# Altium footprint library DIP-RL  0607.PCBlib: 52 footprints (part 2 of 4)
Each footprint in its own frame and in the unit in brackets; x right, y up, seen from the top. Pads: shape width x height; smd on the part's side, far side on the other; paste and mask are expansions set on the pad; w line width, h text height; cw(c..) or ccw(c..) is an arc to the next point about the centre after c.
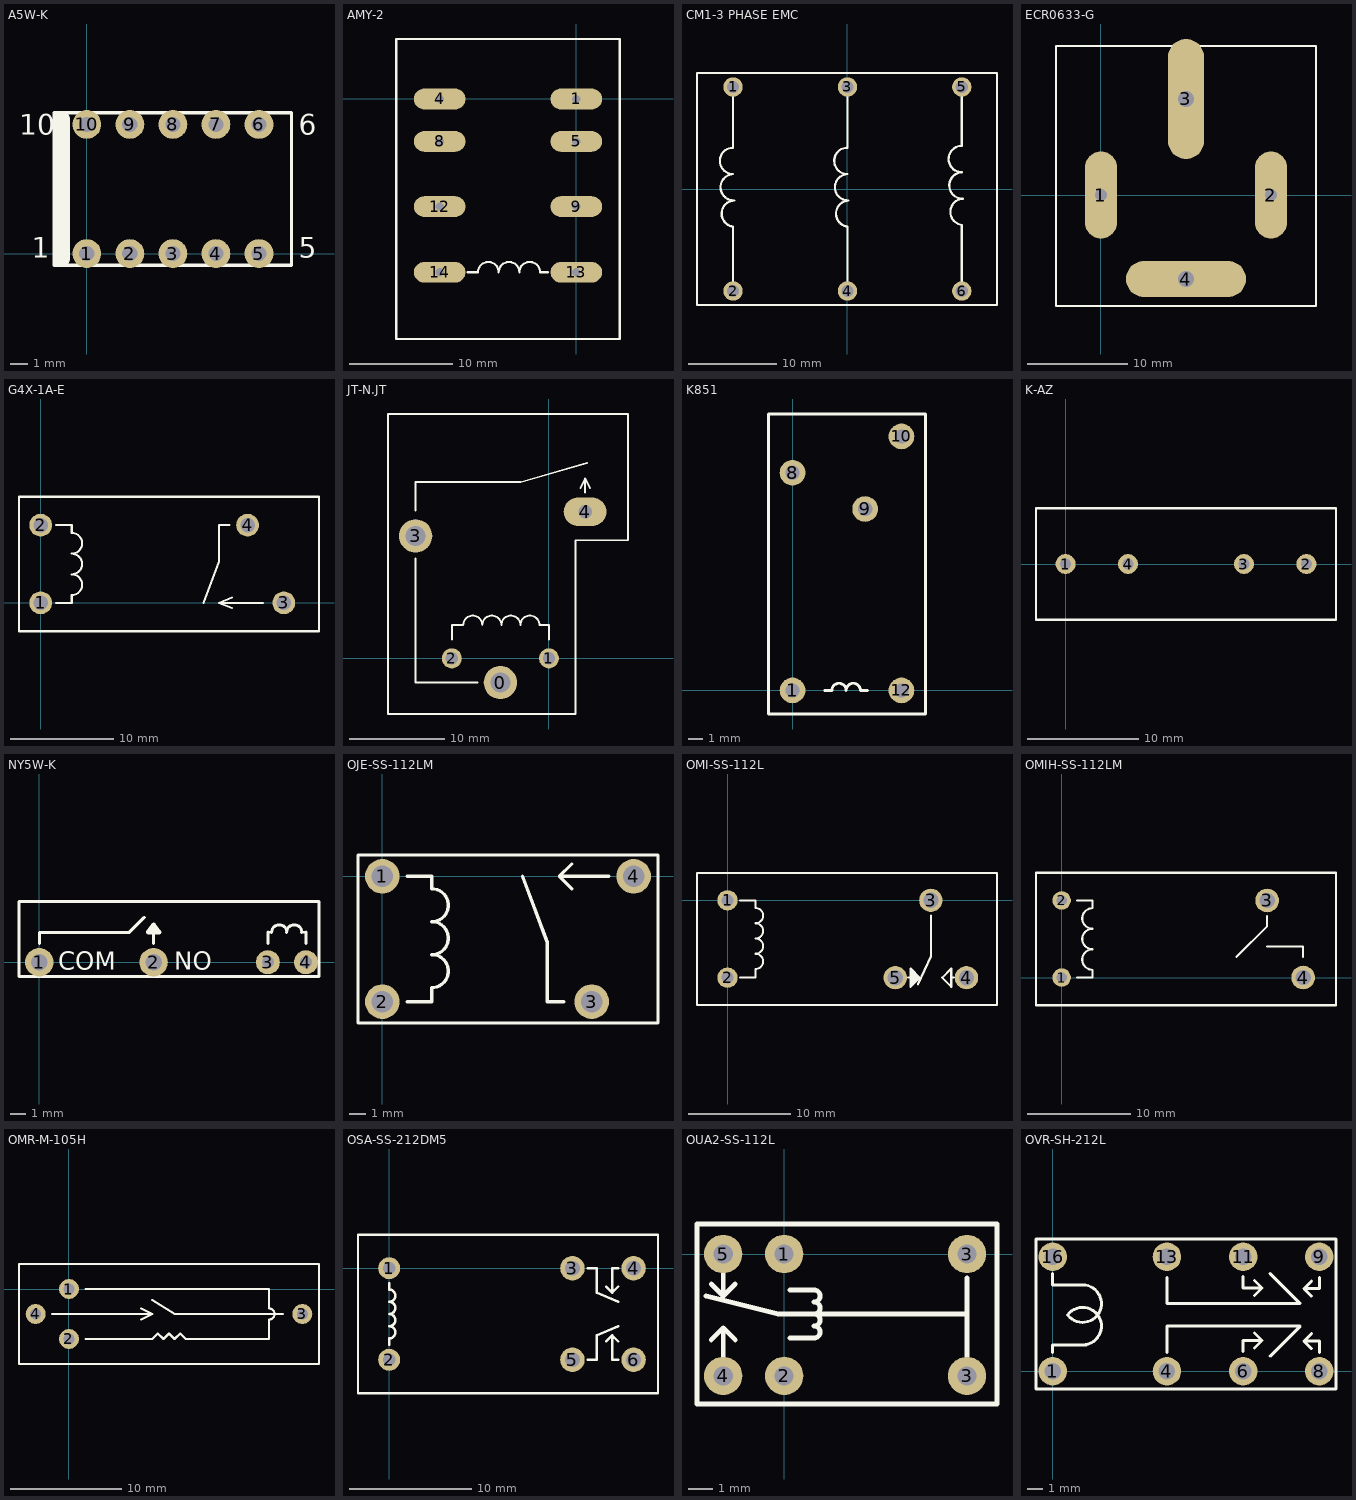
[diagram p1: the footprints below, top view; thin cyan lines are the x and y axes]

## A5W-K [mm] "0720420207"
height 5
pads (10):
  round 1.7 hole 0.9: 1(0,0) 2(2.54,0) 3(5.08,0) 4(7.62,0) 5(10.16,0) 6(10.16,7.62) 7(7.62,7.62) 8(5.08,7.62) 9(2.54,7.62) 10(0,7.62)
Top Overlay:
  lines w0.2: -1.92,-0.7 -1.92,8.3 12.08,8.3 12.08,-0.7 -1.92,-0.7
  lines w1: -1.5,-0.3 -1.5,7.9
  text "10" at -4,7 h1.2
  text "6" at 12.5,7 h1.2
  text "5" at 12.5,-0.25 h1.2
  text "1" at -3.25,-0.25 h1.2
Bottom Overlay:
  lines w0.6: 1.27,-0.75 1.27,0.75 ; 1.27,6.87 1.27,8.37 ; 3.81,-0.75 3.81,0.75 ; 3.81,6.87 3.81,8.37 ; 6.35,-0.75 6.35,0.75 ; 6.35,6.87 6.35,8.37 ; 8.89,-0.75 8.89,0.75 ; 8.89,6.87 8.89,8.37

## AMY-2 [mm]
pads (8):
  oval 5x2 hole 0.8: 1(0,0) 4(-13.2,0) 5(0,-4.1) 8(-13.2,-4.1) 9(0,-10.4) 12(-13.2,-10.4) 13(0,-16.75) 14(-13.2,-16.75)
Top Overlay:
  lines w0.2: -10.5,-16.75 -9.5,-16.75 cw(c-8.5,-16.75) -7.5,-16.75 cw(c-6.5,-16.75) -5.5,-16.75 cw(c-4.5,-16.75) -3.5,-16.75 -2.75,-16.75 ; -17.4,-23.2 -17.4,5.8 4.2,5.8 4.2,-23.2 -17.4,-23.2
Top Solder:
  lines w1.1: -14.05,-16.75 -13.2,-16.75 -12.35,-16.75 ; -14.05,-10.4 -13.2,-10.4 -12.35,-10.4 ; -14.05,-4.1 -13.2,-4.1 -12.35,-4.1 ; -14.05,0 -13.2,0 -12.35,0 ; -0.85,-16.75 0,-16.75 0.85,-16.75 ; -0.85,-10.4 0,-10.4 0.85,-10.4 ; -0.85,-4.1 0,-4.1 0.85,-4.1 ; -0.85,0 0,0 0.85,0
Drill Drawing:
  lines w0.2: -14.05,-17.15 cw(c-14.05,-16.75) -14.05,-16.35 -12.35,-16.35 cw(c-12.35,-16.75) -12.35,-17.15 -14.05,-17.15 ; -14.05,-10.8 cw(c-14.05,-10.4) -14.05,-10 -12.35,-10 cw(c-12.35,-10.4) -12.35,-10.8 -14.05,-10.8 ; -14.05,-4.5 cw(c-14.05,-4.1) -14.05,-3.7 -12.35,-3.7 cw(c-12.35,-4.1) -12.35,-4.5 -14.05,-4.5 ; -14.05,-0.4 cw(c-14.05,0) -14.05,0.4 -12.35,0.4 cw(c-12.35,0) -12.35,-0.4 -14.05,-0.4 ; -0.85,-17.15 cw(c-0.85,-16.75) -0.85,-16.35 0.85,-16.35 cw(c0.85,-16.75) 0.85,-17.15 -0.85,-17.15 ; -0.85,-10.8 cw(c-0.85,-10.4) -0.85,-10 0.85,-10 cw(c0.85,-10.4) 0.85,-10.8 -0.85,-10.8 ; -0.85,-4.5 cw(c-0.85,-4.1) -0.85,-3.7 0.85,-3.7 cw(c0.85,-4.1) 0.85,-4.5 -0.85,-4.5 ; -0.85,-0.4 cw(c-0.85,0) -0.85,0.4 0.85,0.4 cw(c0.85,0) 0.85,-0.4 -0.85,-0.4
  text "(0.8*2.5)*8" at -11,-20.5 h1.2

## CM1-3 PHASE EMC [mm]
pads (6):
  round 2.2 hole 1.4: 1(-13,11.606) 2(-13,-11.594) 3(0,11.606) 4(0,-11.594) 5(13,11.606) 6(13,-11.594)
Top Overlay:
  lines w0.2: -17.1,-13.194 -17.1,13.206 17,13.206 17,-13.194 -17.1,-13.194
  lines w0.254: -13.076,4.704 ccw(c-13,3.206) -13,1.706 ccw(c-12.924,0.208) -12.924,-1.292 ; -13,-11.594 -13,-4.294 ; -13,4.706 -13,11.606 ; -12.998,-4.281 cw(c-12.8,-2.794) -12.876,-1.296 ; -0.076,4.704 ccw(c0,3.206) 0,1.706 ccw(c0.076,0.208) 0.076,-1.292 ; 0,-11.594 0,-4.294 ; 0,4.706 0,11.606 ; 0.002,-4.281 cw(c0.2,-2.794) 0.124,-1.296 ; 12.924,4.904 ccw(c13,3.406) 13,1.906 ccw(c13.076,0.408) 13.076,-1.092 ; 13,-11.594 13,-4.094 ; 13,4.906 13,11.606 ; 13.002,-4.081 cw(c13.2,-2.594) 13.124,-1.096

## ECR0633-G [mm]
pads (4):
  oval 3.2x8.7 hole 1.2: 1(0,0) 2(17,0)
  oval 3.6x12 hole 1.6: 3(8.5,9.6)
  oval 12x3.6 hole 1.6: 4(8.5,-8.4)
Top Overlay:
  lines w0.2: -4.5,-11.1 21.5,-11.1 21.5,14.9 -4.5,14.9 -4.5,-11.1
Top Solder:
  lines w1.5: 0,-2.75 0,0 0,2.75 ; 17,-2.75 17,0 17,2.75
  lines w1.9: 4.3,-8.4 8.5,-8.4 12.7,-8.4 ; 8.5,5.4 8.5,9.6 8.5,13.8
Drill Drawing:
  lines w0.2: -0.599,-2.78 ccw(c0,-2.75) 0.598,-2.793 0.599,2.78 ccw(c0,2.75) -0.598,2.793 -0.599,-2.78 ; 4.3,-9.2 cw(c4.3,-8.4) 4.3,-7.6 12.7,-7.6 cw(c12.7,-8.4) 12.7,-9.2 4.3,-9.2 ; 7.7,5.4 ccw(c8.5,5.4) 9.3,5.4 9.3,13.8 ccw(c8.5,13.8) 7.7,13.8 7.7,5.4 ; 16.401,-2.78 ccw(c17,-2.75) 17.598,-2.793 17.599,2.78 ccw(c17,2.75) 16.402,2.793 16.401,-2.78
  text "1.2X6.7" at 14.25,-6 h1.2
  text "1.2X6.7" at -2.75,-6 h1.2
  text "1.6X10" at 6,1.75 h1.2
  text "1.6X10" at 5.75,-6 h1.2

## G4X-1A-E [mm] "0720010305"
height 25.5
pads (4):
  round 2.2 hole 1.4: 1(0,0) 2(0,7.5) 3(23.5,0) 4(20,7.5)
Top Overlay:
  lines w0.2: 1.5,0 3,0 3,0.75 ccw(c3,1.75) 3,2.75 ccw(c3,3.75) 3,4.75 ccw(c3,5.75) 3,6.75 3,7.5 1.5,7.5 ; 15.75,0 17.25,4 17.25,7.5 18.25,7.5 ; 18.5,-0.5 17.25,0 ; 18.5,0.5 17.25,0 ; 21.5,0 17.25,0 ; -2.1,-2.75 26.9,-2.75 26.9,10.25 -2.1,10.25 -2.1,-2.75

## JT-N.JT [mm]
height 16.9
pads (5):
  round 3.5 hole 2.1: 0(-5.1,-2.54) 3(-14,12.86)
  round 2.1 hole 1.3: 1(0,0) 2(-10.2,0)
  oval 4.5x3 hole 1.4: 4(3.8,15.4)
Top Overlay:
  lines w0.2: -14,10.5 -14,-2.54 -7.5,-2.54 ; -14,15.5 -14,18.5 -3,18.5 4,20.5 ; -10.2,2 -10.2,3.5 -9,3.5 cw(c-8,3.5) -7,3.5 cw(c-6,3.5) -5,3.5 cw(c-4,3.5) -3,3.5 cw(c-2,3.5) -1,3.5 0,3.5 0,2 ; 3.3,17.9 3.8,18.9 ; 3.8,17.4 3.8,18.9 ; 4.3,17.9 3.8,18.9 ; -16.9,-5.84 2.8,-5.84 2.8,12.4 8.3,12.4 8.3,25.66 -16.9,25.66 -16.9,-5.84
Top Solder:
  lines w1.7: 3.4,15.4 3.8,15.4 4.2,15.4
Drill Drawing:
  lines w0.2: 3.4,14.7 cw(c3.4,15.4) 3.4,16.1 4.2,16.1 cw(c4.2,15.4) 4.2,14.7 3.4,14.7
  text "(1.4*2.2)" at -0.2,12.4 h1.2

## K851 [mm]
height 20.5
pads (5):
  round 1.8 hole 1: 1(0,0) 8(0,15.24) 9(5.08,12.7) 10(7.62,17.78) 12(7.62,0)
Top Overlay:
  lines w0.2: 2.25,0 2.75,0 cw(c3.25,0) 3.75,0 cw(c4.25,0) 4.75,0 5.25,0 ; -1.69,-1.65 -1.69,19.35 9.31,19.35 9.31,-1.65 -1.69,-1.65
Mechanical 7:

## K-AZ [mm]
pads (4):
  round 1.8 hole 1: 1(0,0) 2(21.6,0) 3(16,0) 4(5.6,0)
Top Overlay:
  lines w0.2: -2.65,-5 24.25,-5 24.25,5 -2.65,5 -2.65,-5

## NY5W-K [mm] "0720100107"
height 17
pads (4):
  round 1.9 hole 1.1: 1(0,0) 2(7.62,0)
  round 1.6 hole 0.8: 3(15.24,0) 4(17.78,0)
Top Overlay:
  lines w0.2: 0,1.25 0,2 6,2 7,3 ; 7.62,1.25 7.62,2.5 ; 15.24,1.25 15.24,2 15.5,2 cw(c16,2) 16.5,2 cw(c17,2) 17.5,2 17.78,2 17.78,1.25 ; -1.35,-0.95 -1.35,4.05 18.65,4.05 18.65,-0.95 -1.35,-0.95
  lines w0.3: 7.25,2 8,2 7.62,2.5 7.25,2
  text "NO" at 9,-0.5 h1.2
  text "COM" at 1.25,-0.5 h1.2
Bottom Overlay:
  lines w0.6: 16.52,-0.75 16.52,0.75

## OJE-SS-112LM [mm] "0725040001"
height 14.6
pads (4):
  round 2.1 hole 1.3: 1(0,0) 2(0,-7.6) 3(12.7,-7.6) 4(15.24,0)
Top Overlay:
  lines w0.2: 1.5,-7.6 3,-7.6 3,-6.75 ccw(c3,-5.75) 3,-4.75 ccw(c3,-3.75) 3,-2.75 ccw(c3,-1.75) 3,-0.75 3,0 1.5,0 ; 8.5,0 10,-4 10,-7.6 11,-7.6 ; 11.49,-0.75 10.74,0 ; 11.49,0.75 10.74,0 ; 13.74,0 10.74,0 ; -1.48,-8.9 16.72,-8.9 16.72,1.3 -1.48,1.3 -1.48,-8.9

## OMI-SS-112L [mm] "0720370001"
height 20.6
pads (5):
  round 2 hole 1.2: 1(0,0) 2(0,-7.6)
  round 2.3 hole 1.5: 3(20,0) 4(23.5,-7.6) 5(16.5,-7.6)
Top Overlay:
  lines w0.2: 1.25,-7.6 2.75,-7.6 2.75,-6.75 ccw(c2.75,-6) 2.75,-5.25 ccw(c2.75,-4.5) 2.75,-3.75 ccw(c2.75,-3) 2.75,-2.25 ccw(c2.75,-1.5) 2.75,-0.75 2.75,0 1.25,0 ; 17.75,-7.6 18,-7.6 ; 18.2,-8.3 18.2,-6.9 ; 18.4,-8.1 18.4,-7.1 ; 18.6,-7.9 18.6,-7.3 ; 18.75,-8.25 20,-5.5 20,-1.5 ; 18.8,-7.7 18.8,-7.5 ; 22,-7.6 22.25,-7.6 ; 18,-7.6 18,-8.5 18.9,-7.6 18,-6.7 18,-7.6 ; -3,-10.3 -3,2.7 26.5,2.7 26.5,-10.3 -3,-10.3 ; 21.1,-7.6 22,-6.7 22,-8.5 21.1,-7.6

## OMIH-SS-112LM [mm] "0720700101"
height 20.6
pads (4):
  round 1.8 hole 1: 1(0,0) 2(0,7.5)
  round 2.3 hole 1.5: 3(20,7.5) 4(23.5,0)
Top Overlay:
  lines w0.2: 1.5,0 3,0 3,0.75 cw(c3,1.75) 3,2.75 cw(c3,3.75) 3,4.75 cw(c3,5.75) 3,6.75 3,7.5 1.5,7.5 ; 17,2 20,5 20,6 ; 20,3 23.5,3 23.5,2 ; -2.5,-2.7 26.7,-2.7 26.7,10.2 -2.5,10.2 -2.5,-2.7

## OMR-M-105H [mm] "0720230101"
height 8.9
pads (4):
  round 1.8 hole 1: 1(0,0) 2(0,-4.5) 3(21,-2.25) 4(-3,-2.25)
Top Overlay:
  lines w0.2: -1.5,-2.25 7.5,-2.25 ; 1.5,-4.5 7.5,-4.5 8,-4 8.5,-4.5 9,-4 9.5,-4.5 10,-4 10.5,-4.5 18,-4.5 18,-2.75 ccw(c18,-2.25) 18,-1.75 18,0 1.5,0 ; 6.5,-2.75 7.5,-2.25 ; 6.5,-1.75 7.5,-2.25 ; 7.5,-1 9.5,-2.25 19.25,-2.25 ; -4.5,-6.75 -4.5,2.25 22.5,2.25 22.5,-6.75 -4.5,-6.75

## OSA-SS-212DM5 [mm] "0720060701"
height 20.6
pads (6):
  round 1.8 hole 1: 1(0,0) 2(0,-7.5)
  round 2 hole 1.2: 3(15,0) 4(20,0) 5(15,-7.5) 6(20,-7.5)
Top Overlay:
  lines w0.2: 0,-6.25 0,-5.75 ccw(c0,-5.25) 0,-4.75 ccw(c0,-4.25) 0,-3.75 ccw(c0,-3.25) 0,-2.75 ccw(c0,-2.25) 0,-1.75 0,-1.25 ; 16.25,-7.5 17,-7.5 17,-5.5 18.75,-4.75 ; 16.25,0 17,0 17,-2 18.75,-2.75 ; 17.75,-6 18.25,-5.5 ; 17.75,-1.5 18.25,-2 ; 18.75,-7.5 18.25,-7.5 18.25,-5.5 ; 18.75,-6 18.25,-5.5 ; 18.75,-1.5 18.25,-2 ; 18.75,0 18.25,0 18.25,-2 ; -2.55,-10.25 -2.55,2.75 22,2.75 22,-10.25 -2.55,-10.25

## OUA2-SS-112L [mm]
pads (6):
  round 1.6 hole 0.8: 1(0,0) 2(0,-5.08) 3(7.62,-5.08) 3(7.62,0) 4(-2.54,-5.08) 5(-2.54,0)
Top Overlay:
  lines w0.2: -3.25,-1.75 -0.25,-2.5 7.5,-2.5 ; -3.04,-3.58 -2.54,-3.08 ; -3.04,-1.25 -2.54,-1.75 ; -2.54,-4.33 -2.54,-3.08 ; -2.54,-0.5 -2.54,-1.75 ; -2.04,-3.58 -2.54,-3.08 ; -2.04,-1.25 -2.54,-1.75 ; 0.25,-3.5 1.25,-3.5 ccw(c1.25,-3.25) 1.25,-3 ccw(c1.25,-2.75) 1.25,-2.5 ccw(c1.25,-2.25) 1.25,-2 ccw(c1.25,-1.75) 1.25,-1.5 0.25,-1.5 ; 7.62,-4.25 7.62,-1 ; 8.82,-6.25 -3.63,-6.25 -3.63,1.25 8.87,1.25 8.87,-6.25

## OVR-SH-212L [mm]
pads (8):
  round 1.9 hole 1.1: 1(0,0) 4(7.62,0) 6(12.7,0) 8(17.78,0) 9(17.78,7.62) 11(12.7,7.62) 13(7.62,7.62) 16(0,7.62)
Top Overlay:
  lines w0.2: 0,1.25 0,1.75 2.25,1.75 ; 0,6.5 0,5.75 2,5.75 cw(c2,4.5) 1.002,3.748 ; 1.002,3.752 cw(c2,3) 2,1.75 ; 7.62,1.25 7.62,3 16.5,3 14.5,1 ; 7.62,6.25 7.62,4.5 16.5,4.5 14.5,6.5 ; 12.7,1.3 12.7,2.05 13.95,2.05 ; 12.7,6.3 12.7,5.55 13.95,5.55 ; 13.45,1.55 13.95,2.05 ; 13.45,2.55 13.95,2.05 ; 13.45,5.05 13.95,5.55 ; 13.45,6.05 13.95,5.55 ; 17.25,1.5 16.75,2 ; 17.25,2.5 16.75,2 ; 17.25,5 16.75,5.5 ; 17.25,6 16.75,5.5 ; 17.78,1.25 17.78,2 16.75,2 ; 17.78,6.25 17.78,5.5 16.75,5.5 ; -1.11,-1.19 18.89,-1.19 18.89,8.81 -1.11,8.81 -1.11,-1.19